# EAGLE library part 685119248123 (library WR-HDMI)
WR-COM HDMI SMT Horizontal Applications Industrial Imaging Home Theaters / Gaming Consumer Electronics <https://www.we-online.com/components/media/o828367v209%20685119134923_Multi-parts.jpg> Details see: www.we-online.com/en/components/products/INPUT_OUTPUT_WR_COM_HDMI_CONNECTORS <www.we-online.com/catalog/INPUT_OUTPUT_WR_COM_HDMI_CONNECTORS/?utm_source=eagle_model&utm_medium=description_link&utm_campaign=eisos_eagle> Updated by Ella Wu 2023-10-09 2023(C) Würth Elektronik
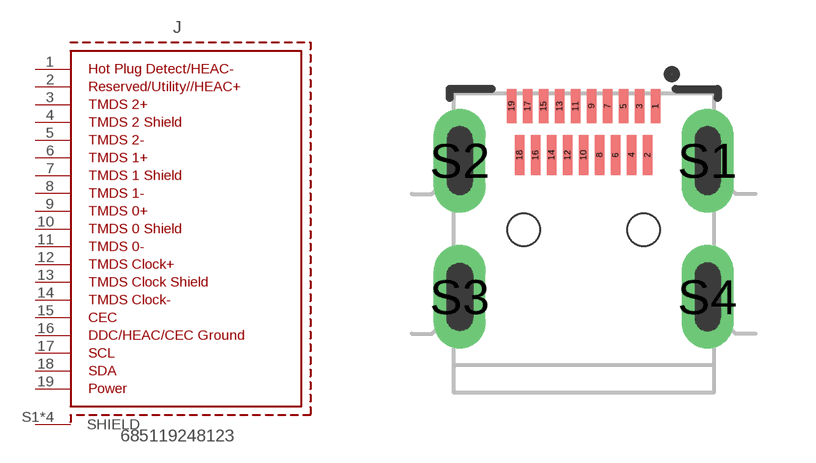
[diagram p2: symbol with the pads of 685119248123; footprint 685119248123]

Designator prefix J

## 685119248123 (APPLICATION: Micro HDMI; DATASHEET-URL: https://www.we-online.com/redexpert/spec/685119248123?ae; GERDER: Receptacle; MOUNT: SMT; OPERATING-TEMPERATURE: -25 °C up to +85 °C; PART-NUMBER: 685119248123; PINS: 19pcs; TYPE: Horizontal; VALUE: 685119248123; WORKING-VOLTAGE: 40VAC)  [685119248123]
1  HEAC-  pas
2  HEAC+  pas
3  TMDS2+  pas
4  TMDS2SHIELD  pas
5  TMDS2-  pas
6  TMDS1+  pas
7  TMDS1SHIELD  pas
8  TMDS1-  pas
9  TMDS0+  pas
10  TMDS0SHIELD  pas
11  TMDS0-  pas
12  TMDSCLOCK+  pas
13  TMDSCLOCKSHIELD  pas
14  TMDSCLOCK-  pas
15  CEC  pas
16  DDC/HEAC/CECGROUND  pas
17  SCL  pas
18  SDA  pas
19  POWER  pwr
S1  SHIELD  pas
S2  SHIELD  pas
S3  SHIELD  pas
S4  SHIELD  pas

## Footprint 685119248123 (pad centres in mm)
WR-COM HDMI Connectors Micro HDMI, SMT, 19 pins
smd 0.23 x 0.85: 1 1.8,3.095; 3 1.4,3.095; 5 1,3.095; 7 0.6,3.095; 9 0.2,3.095; 11 -0.2,3.095; 13 -0.6,3.095; 15 -1,3.095; 17 -1.4,3.095; 19 -1.8,3.095
smd 0.23 x 1: 2 1.6,1.87; 4 1.2,1.87; 6 0.8,1.87; 8 0.4,1.87; 10 0,1.87; 12 -0.4,1.87; 14 -0.8,1.87; 16 -1.2,1.87; 18 -1.6,1.87
drill 0.65 pad 1.3 long: S1 3.1,1.73; S2 -3.1,1.73; S3 -3.1,-1.68; S4 3.1,-1.68
hole 0.81 at 1.5,0
hole 0.81 at -1.5,0